# EAGLE library part LTC3200 (library PowerProducts)
LT-Spice library generated with : ltspice.ulp from: D:/Program Files (x86)/LTC/LTspiceIV/lib/sym/PowerProducts/LTC3200-5*.asy at 07.10.2012 17:17:22
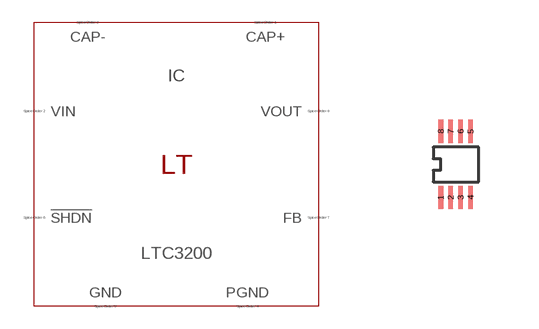
[diagram p124: symbol with the pads of MSOP8(MS8); footprint MSOP8(MS8)]

Designator prefix IC

## LTC3200 (SPICEMODEL: LTC3200.sub; SPICEPREFIX: X; VALUE2: LTC3200)  [MSOP8(MS8)]
1  CAP+  pas
2  VIN  pas
3  CAP-  pas
4  PGND  pas
5  GND  pas
6  !SHDN  pas
7  FB  pas
8  VOUT  pas

## Footprint MSOP8(MS8) (pad centres in mm)
Package generated from: MSOP8(MS8).asc (!PADS-POWERPCB-V5.0-BASIC! DESIGN DATABASE ASCII FILE 1.0) with :import-pads-powerpcb-v5.ulp Version 1.0.1 at 04.10.2012 14:11:20
smd 0.116 x 0.581: 1 -0.372,-0.827; 2 -0.124,-0.827; 3 0.124,-0.827; 4 0.372,-0.827; 5 0.372,0.827; 6 0.124,0.827; 7 -0.124,0.827; 8 -0.372,0.827